# Altium schematic symbol library TP25.Schlib: 1 symbol
Pins are listed as number, name and electrical type; pins without a type are passive.

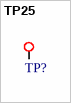
[diagram p0: symbol TP25]

## TP25
designator TP?, comment TESTPOINT  (value not drawn)  (no BOM)
0.025" Round Test Point
pins: 1